# Altium footprint library Project.PcbLib: 13 footprints
Each footprint in its own frame and in the unit in brackets; x right, y up, seen from the top. Pads: shape width x height; smd on the part's side, far side on the other; paste and mask are expansions set on the pad; w line width, h text height; cw(c..) or ccw(c..) is an arc to the next point about the centre after c.
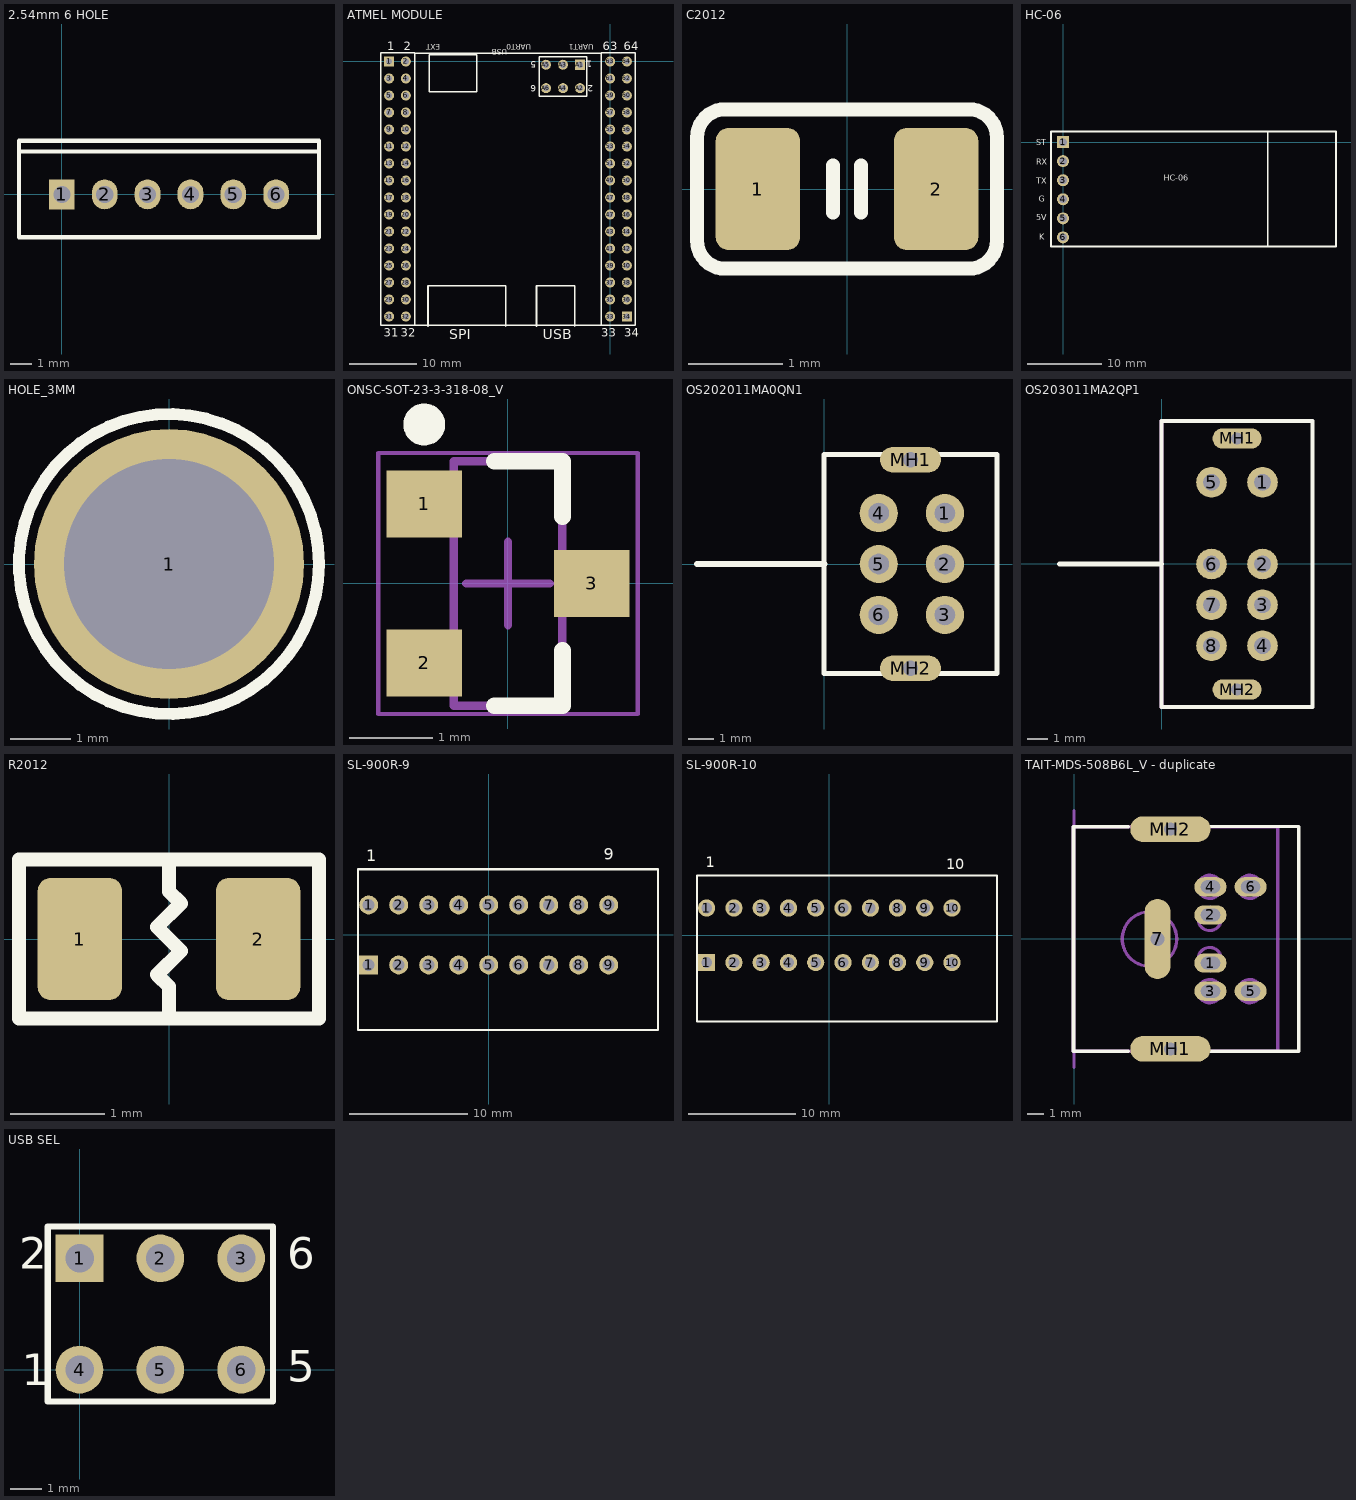
[diagram p0: the footprints below, top view; thin cyan lines are the x and y axes]

## 2.54mm 6 HOLE [mm] "Connector; Header; 6 Position"
height 20.3
pads (6):
  rect 1.2x1.4 hole 0.8: 1(0,0)
  oval 1.2x1.4 hole 0.8: 2(2,0) 3(4,0) 4(6,0) 5(8,0) 6(10,0)
Top Overlay:
  lines w0.2: -2,2 12,2 ; -2,-2 12,-2 12,2.5 -2,2.5 -2,-2

## ATMEL MODULE [mm] "Connector; Header; 16x2 Position"
pads (70):
  rect 1.5x1.5 hole 0.9: 1(-33,0) 34(2.5,-38.1) A1(-4.5,-0.5)
  round 1.5 hole 0.9: 2(-30.5,0) 3(-33,-2.54) 4(-30.5,-2.54) 5(-33,-5.08) 6(-30.5,-5.08) 7(-33,-7.62) 8(-30.5,-7.62) 9(-33,-10.16) 10(-30.5,-10.16) 11(-33,-12.7) 12(-30.5,-12.7) 13(-33,-15.24) 14(-30.5,-15.24) 15(-33,-17.78) 16(-30.5,-17.78) 17(-33,-20.32) 18(-30.5,-20.32) 19(-33,-22.86) 20(-30.5,-22.86) 21(-33,-25.4) 22(-30.5,-25.4) 23(-33,-27.94) 24(-30.5,-27.94) 25(-33,-30.48) 26(-30.5,-30.48) 27(-33,-33.02) 28(-30.5,-33.02) 29(-33,-35.56) 30(-30.5,-35.56) 31(-33,-38.1) 32(-30.5,-38.1) 33(0,-38.1) 35(0,-35.56) 36(2.5,-35.56) 37(0,-33.02) 38(2.5,-33.02) 39(0,-30.48) 40(2.5,-30.48) 41(0,-27.94) 42(2.5,-27.94) 43(0,-25.4) 44(2.5,-25.4) 46(2.5,-22.86) 47(0,-22.86) 47(0,-20.32) 48(2.5,-20.32) 49(0,-17.78) 50(2.5,-17.78) 51(0,-15.24) 52(2.5,-15.24) 53(0,-12.7) 54(2.5,-12.7) 55(0,-10.16) 56(2.5,-10.16) 57(0,-7.62) 58(2.5,-7.62) 59(0,-5.08) 60(2.5,-5.08) 61(0,-2.54) 62(2.5,-2.54) 63(0,0) 64(2.5,0) A2(-4.5,-4) A3(-7.04,-0.5) A4(-7.04,-4) A5(-9.58,-0.5) A6(-9.58,-4)
Top Overlay:
  lines w0.2: -34.27,-39.37 -29.19,-39.37 -29.19,1.27 -34.27,1.27 -34.27,-39.37 ; -27,-4.5 -27,1 -19.92,1 -19.92,-4.5 -27,-4.5 ; -10.617,0.7 -3.5,0.7 -3.5,-5.2 -10.597,-5.2 -10.617,0.7 ; -1.31,-39.37 -1.31,1.27 3.77,1.27 3.77,-39.37 -1.31,-39.37
  lines w0.254: -29.3,-39.4 -1.3,-39.4 ; -29.2,1.2 -1.4,1.2 ; -27.2,-39.5 -27.2,-33.5 -15.6,-33.5 ; -15.9,-33.5 -15.6,-33.5 ; -15.6,-39.5 -15.6,-33.5 ; -11,-39.5 -11,-33.5 -5.3,-33.5 -5.3,-39.5
  text "32" at -31.3,-41.141 h1.27
  text "UART0" at -11.754,2.546 h0.8
  text "34" at 2.1,-41.141 h1.27
  text "33" at -1.3,-41.141 h1.27
  text "31" at -33.8,-41.141 h1.27
  text "2" at -30.8,1.695 h1.27
  text "63" at -1.1,1.695 h1.27
  text "64" at 2,1.695 h1.27
  text "1" at -33.3,1.695 h1.27
  text "SPI" at -24.046,-41.446 h1.52
  text "USB" at -10.046,-41.446 h1.52
  text "UART1" at -2.454,2.546 h0.8
  text "EXT" at -25.354,2.546 h0.8
  text "USB" at -15.354,1.846 h0.8
  text "5" at -11.049,0.008 h1
  text "2" at -2.54,-3.548 h1
  text "1" at -2.667,0.135 h1
  text "6" at -11.049,-3.548 h1

## C2012 [mm]
height 0.1
pads (2):
  rrect30% 0.9x1.3 smd mask+0: 1(-0.95,0) 2(0.95,0)
Top Overlay:
  lines w0.15: -0.15,-0.25 -0.15,0.25 ; 0.15,-0.25 0.15,0.25 ; -1.6,-0.55 ccw(c-1.3,-0.55) -1.3,-0.85 1.3,-0.85 ccw(c1.3,-0.55) 1.6,-0.55 1.6,0.55 ccw(c1.3,0.55) 1.3,0.85 -1.3,0.85 ccw(c-1.3,0.55) -1.6,0.55 -1.6,-0.55
3D body "C2012.STEP": height 1.22, standoff -0.03, extent -1,-0.625 1,0.625

## HC-06 [mm]
height 8.58
pads (6):
  rect 1.6x1.6 hole 1.02: 1(0,0)
  round 1.6 hole 1.02: 2(0,-2.54) 3(0,-5.08) 4(0,-7.62) 5(0,-10.16) 6(0,-12.7)
Top Overlay:
  lines w0.254: 27.3,-13.9 27.3,1.4 ; -1.6,-13.9 -1.6,1.4 36.4,1.4 36.4,-13.9 -1.6,-13.9
  text "HC-06" at 13.416,-5.16 h0.8
  text "K" at -3.2,-13.02 h0.8
  text "5V" at -3.6,-10.42 h0.8
  text "G" at -3.2,-7.92 h0.8
  text "TX" at -3.6,-5.52 h0.8
  text "RX" at -3.6,-3.02 h0.8
  text "ST" at -3.6,-0.42 h0.8
3D body "User Library-HC-06.step": height 8, standoff 1.9, extent -6.5,-13.75 36.25,1.25

## HOLE_3MM [mm]
height 1.11
pads (1):
  round 4.5 hole 3.5 mask+0.127: 1(0,0)
Top Overlay:
  circle w0.2: c0,0 r2.5

## ONSC-SOT-23-3-318-08_V [mm] "SOT23, 3-Leads, Body 2.92x1.3mm, Pitch 0.95mm"
height 1.11
pads (3):
  rect 0.9x0.8 smd: 1(-1,0.95) 2(-1,-0.95) 3(1,0)
Top Overlay:
  circle w0.25: c-1,1.9 r0.125
  lines w0.2: -0.165,-1.46 0.65,-1.46 0.65,-0.8 ; -0.165,1.46 0.65,1.46 0.65,0.8
Top 3D Body:
  lines w0.1: -0.65,-1.46 0.65,-1.46 0.65,1.46 -0.65,1.46 -0.65,-1.46
Top Courtyard:
  lines w0.05: -1.55,-1.56 1.55,-1.56 1.55,1.56 -1.55,1.56 -1.55,-1.56
  lines w0.1: -0.5,0 0.5,0 ; 0,-0.5 0,0.5
3D body: height 1.11, standoff 0.01, extent -0.65,-1.46 0.65,1.46

## OS202011MA0QN1 [mm] "Mini DIN Connector"
pads (8):
  round 1.5 hole 0.8: 1(4.75,2) 2(4.75,0) 3(4.75,-2) 4(2.15,2) 5(2.15,0) 6(2.15,-2)
  oval 2.4x1 hole 0.6 square: MH1(3.4,4.1) MH2(3.4,-4.1)
Top Overlay:
  lines w0.2: 0,-4.3 0,4.3 6.8,4.3 6.8,-4.3 0,-4.3
  lines w0.254: -5,0 0,0

## OS203011MA2QP1 [mm] "Mini DIN Connector"
pads (10):
  round 1.5 hole 0.8: 1(4.95,4) 2(4.95,0) 3(4.95,-2) 4(4.95,-4) 5(2.45,4) 6(2.45,0) 7(2.45,-2) 8(2.45,-4)
  oval 2.4x1 hole 0.6 square: MH1(3.7,6.15) MH2(3.7,-6.15)
Top Overlay:
  lines w0.2: 0,-7 0,7 7.4,7 7.4,-7 0,-7
  lines w0.254: -5,0 0,0
Top 3D Body:
  lines w0.2: 0,-7 0,7 0,-7

## R2012 [mm]
height 1
pads (2):
  rrect30% 0.9x1.3 smd mask+0: 1(-0.95,0) 2(0.95,0)
Top Overlay:
  lines w0.15: 0,-0.85 0,-0.508 -0.127,-0.381 0.127,-0.127 -0.127,0.127 0.127,0.381 0,0.508 0,0.85 ; -1.6,-0.85 1.6,-0.85 1.6,0.85 -1.6,0.85 -1.6,-0.85
3D body "R2012.STEP": height 0.59, standoff -0.01, extent -1,-0.625 1,0.625

## SL-900R-9 [mm] "Connector; Header; 11x2 Position"
height 1.11
pads (18):
  rect 1.6x1.6 hole 1: 1(-10.16,-2.54)
  round 1.6 hole 1: 1(-10.16,2.54) 2(-7.62,-2.54) 2(-7.62,2.54) 3(-5.08,-2.54) 3(-5.08,2.54) 4(-2.54,-2.54) 4(-2.54,2.54) 5(0,-2.54) 5(0,2.54) 6(2.54,-2.54) 6(2.54,2.54) 7(5.09,-2.54) 7(5.09,2.54) 8(7.62,-2.54) 8(7.62,2.54) 9(10.16,-2.54) 9(10.16,2.54)
Top Overlay:
  lines w0.2: -11.06,-8.04 -11.06,5.56 14.34,5.56 14.34,-8.04 -11.06,-8.04
  text "9" at 9.74,6.36 h1
  text "1" at -10.36,6.26 h1
3D body "SL900R-09.stp": height 13.29, standoff -3.41, extent -11.06,-8.04 11.8,5.56

## SL-900R-10 [mm] "Connector; Header; 11x2 Position"
height 1.11
pads (20):
  rect 1.6x1.6 hole 1: 1(-11.43,-2.54)
  round 1.6 hole 1: 1(-11.43,2.54) 2(-8.89,-2.54) 2(-8.89,2.54) 3(-6.35,-2.54) 3(-6.35,2.54) 4(-3.81,-2.54) 4(-3.81,2.54) 5(-1.27,-2.54) 5(-1.27,2.54) 6(1.27,-2.54) 6(1.27,2.54) 7(3.82,-2.54) 7(3.82,2.54) 8(6.35,-2.54) 8(6.35,2.54) 9(8.89,-2.54) 9(8.89,2.54) 10(11.43,-2.54) 10(11.43,2.54)
Top Overlay:
  lines w0.2: -12.33,-8.04 15.62,-8.04 15.62,5.56 -12.33,5.56 -12.33,-8.04
  text "1" at -11.53,6.352 h1
  text "10" at 10.87,6.16 h1
3D body "SL900R-10.stp": height 13.29, standoff -3.41, extent -12.33,-8.04 13.07,5.56

## TAIT-MDS-508B6L_V - duplicate [mm] "Mini DIN Connector"
pads (9):
  oval 2x1.2 hole 1.2 slot 0.8 at 90 deg: 1(8.5,-1.5) 2(8.5,1.5) 3(8.5,-3.25) 4(8.5,3.25) 5(11,-3.25) 6(11,3.25)
  oval 1.6x5 hole 0.9 square unplated: 7(5.2,0)
  oval 5x1.6 hole 0.8 square: MH1(6,-6.85) MH2(6,6.85)
Top Overlay:
  lines w0.2: -0.05,-7 -0.05,7 ; 3.37,-7 0,-7 0,7 3.39,7 ; 7.889,-7 14,-7 14,7 ; 7.889,7 14,7.02
Top 3D Body:
  circle w0.2: c4.7,0 r1.697
  circle w0.2: c8.45,3.25 r0.725
  circle w0.2: c8.45,1.25 r0.725
  circle w0.2: c8.45,-1.25 r0.725
  circle w0.2: c8.45,-3.25 r0.725
  circle w0.2: c10.95,-3.25 r0.725
  circle w0.2: c10.95,3.25 r0.725
  lines w0.2: 0,-8.001 0,-7 ; 0,8.001 0,7 ; 0,-7 0,7 ; 0,-7 0,7 ; -0.05,-7 -0.05,7 12.7,7 12.7,-7 -0.05,-7
  text "PCB Edge" at 1.143,-6.731 h0.8
3D body "Mini DIN - 6 Way - Purple.stp": height 13, standoff -3.2, extent -0.101,-7.025 12.698,6.975

## USB SEL [mm] "Connector; Header; 11x2 Position"
pads (6):
  rect 1.5x1.5 hole 0.9: 1(0,3.5)
  round 1.5 hole 0.9: 2(2.54,3.5) 3(5.08,3.5) 4(0,0) 5(2.54,0) 6(5.08,0)
Top Overlay:
  lines w0.2: -1,-1 -1,4.5 6.08,4.5 6.08,-1 -1,-1
  text "6" at 6.528,3.175 h1
  text "1" at -1.814,-0.483 h1
  text "2" at -1.905,3.175 h1
  text "5" at 6.528,-0.381 h1